# Altium footprint library PcbLib_H2.PcbLib: 33 footprints (part 3 of 3)
Each footprint in its own frame and in the unit in brackets; x right, y up, seen from the top. Pads: shape width x height; smd on the part's side, far side on the other; paste and mask are expansions set on the pad; w line width, h text height; cw(c..) or ccw(c..) is an arc to the next point about the centre after c.
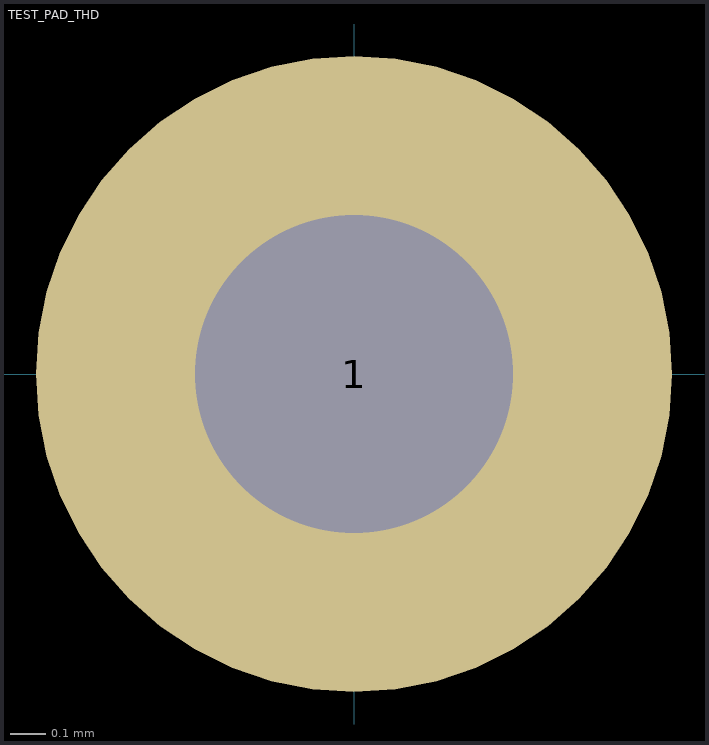
[diagram p2: the footprint, top view; thin cyan lines are the x and y axes]

## TEST_PAD_THD [mm]
pads (1):
  round 1.8 hole 0.9: 1(0,0)
3D body "CircuitWorks-TEST POINT.step": height 6.5, standoff -3, extent -0.5,-0.5 0.5,0.5